# EAGLE library part ULTIMATE_GPS (library Arduino-MITCH_Breakouts)
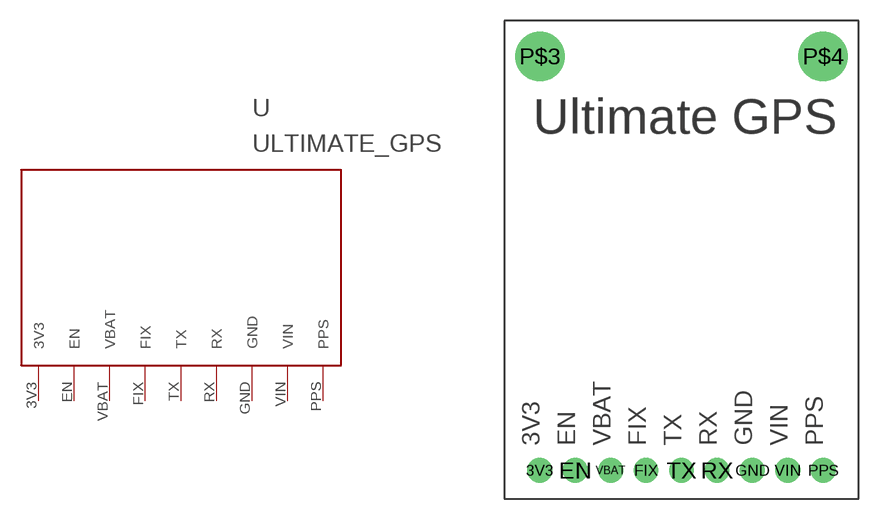
[diagram p1: symbol with the pads of ULTIMATE_GPS; footprint ULTIMATE_GPS]

Designator prefix -

## ULTIMATE_GPS  [ULTIMATE_GPS]
3V3  3V3
EN  EN
FIX  FIX
GND  GND
PPS  PPS
RX  RX
TX  TX
VBAT  VBAT
VIN  VIN

## Footprint ULTIMATE_GPS (pad centres in mm)
drill 1.016 pad 1.778: 3V3 2.54,2.032; EN 5.08,2.032; FIX 10.16,2.032; GND 17.78,2.032; PPS 22.86,2.032; RX 15.24,2.032; TX 12.7,2.032; VBAT 7.62,2.032; VIN 20.32,2.032
drill 2.54 pad 3.531: P$3 2.54,31.75; P$4 22.86,31.75